# Altium footprint library 7404337_RZ_G2_CD1.PcbLib: 11 footprints
Each footprint in its own frame and in the unit in brackets; x right, y up, seen from the top. Pads: shape width x height; smd on the part's side, far side on the other; paste and mask are expansions set on the pad; w line width, h text height; cw(c..) or ccw(c..) is an arc to the next point about the centre after c.
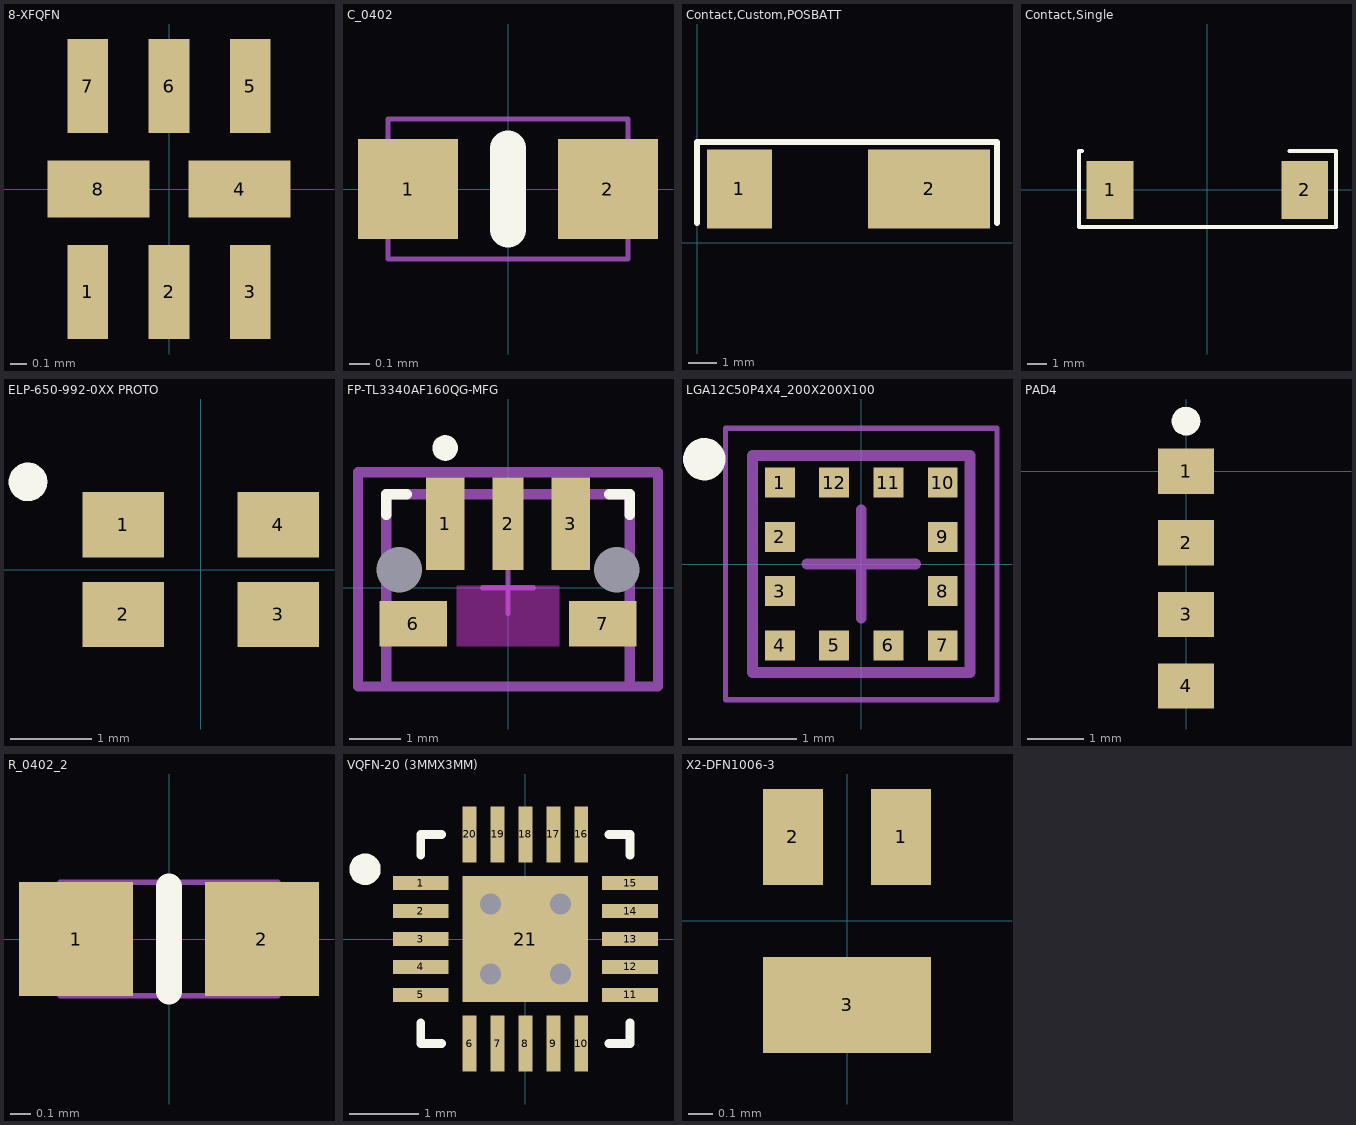
[diagram p0: the footprints below, top view; thin cyan lines are the x and y axes]

## 8-XFQFN [mm] "8-X2QFN (1.5x1.5)"
height 0.4
pads (8):
  rect 0.25x0.58 smd mask+0.127: 1(-0.5,-0.635) 2(0,-0.635) 3(0.5,-0.635) 5(0.5,0.635) 6(0,0.635) 7(-0.5,0.635)
  rect 0.63x0.35 smd mask+0.127: 4(0.435,0) 8(-0.435,0)
3D body "8-XFQFN.stp": height 0.41, standoff 0.01, extent -0.75,-0.75 0.75,0.75

## C_0402 [mm] "Chip capacitor 0402"
height 0.701
pads (2):
  rect 0.5x0.5 smd: 1(-0.5,0) 2(0.5,0)
Top Overlay:
  lines w0.178: 0,-0.203 0,0.203
Mechanical 15:
  lines w0.025: -0.599,-0.351 0.599,-0.351 0.599,0.351 -0.599,0.351 -0.599,-0.351
3D body "CAP_0402.step": height 0.51, standoff 0.01, extent -0.498,-0.249 0.502,0.251

## Contact,Custom,POSBATT [mm]
pads (2):
  rect 2.286x2.794 smd: 1(1.5,1.9)
  rect 4.318x2.794 smd: 2(8.2,1.9)
Top Overlay:
  lines w0.2: 0,0.7 0,3.561 10.6,3.561 10.6,0.7
Mechanical 15:
  text "'.Designator'" at 1.1,2.033 h0.7
3D body "7404338 REV00.STEP": height 2.76, standoff 0.01, extent 0.551,0.403 10.201,3.155

## Contact,Single [mm]
pads (2):
  rect 2.4x3 smd: 1(-5,0) 2(5,0)
Top Overlay:
  lines w0.2: -6.424,2 -6.6,2 ; -3.4,-1.9 6.6,-1.9 ; 6.6,2 6.6,-1.9 ; -6.6,-1.9 6.6,-1.9 ; -6.6,-1.9 -6.6,-0.6 ; -6.6,-1.9 6.6,-1.9 ; -6.6,-1.9 -6.6,-0.6 ; -6.6,-0.6 -6.6,2 ; -6.6,-0.6 -6.6,2
  lines w0.203: 4.2,2 6.6,2
Mechanical 15:
  text "'.Designator'" at -3.865,-0.292 h0.7
3D body "AVX-70-9155-001-615-004.STEP": height 2.51, standoff 0.01, extent -6,-1.35 6,1.35

## ELP-650-992-0XX PROTO [mm] "Jenoptik LED Emitter"
height 1
pads (4):
  rect 1x0.8 smd: 1(-0.95,0.55) 2(-0.95,-0.55) 3(0.95,-0.55) 4(0.95,0.55)
Top Overlay:
  circle w0.254: c-2.122,1.076 r0.11
3D body "rcled.STEP": height 1, standoff 0, extent -1.05,-1.05 1.05,1.05

## FP-TL3340AF160QG-MFG [mil]
height 27.56
pads (7):
  rect 29.5x71 smd paste+0 mask+0: 1(-48.25,49.21) 3(48.25,49.21)
  rect 24x71 smd paste+0 mask+0: 2(0,49.21)
  round 0 hole 35 unplated paste-39370.1 mask+0: 4(-83.5,13.71) 5(83.5,13.71)
  rect 51.5x35 smd paste+0 mask+0: 6(-72.75,-27.79) 7(72.75,-27.79)
Top Overlay:
  circle w9.84: c-48.23,107.28 r4.92
  lines w7.87: -93.5,56.1 -93.5,71.85 -77.76,71.85 ; 77.76,71.85 93.5,71.85 93.5,56.1
Keep-Out Layer:
  rectangle: -39.5,-45.29 39.5,1.71
Mechanical 15:
  lines w3.94: -19.68,0 19.68,0 ; 0,-19.68 0,19.68
  lines w7.87: -93.5,-71.85 -93.5,71.85 93.5,71.85 93.5,-71.85 ; -115.16,-75.79 115.16,-75.79 ; -115.16,-75.79 -115.16,88.58 ; -115.16,-75.79 -115.16,88.58 ; -115.16,-75.79 115.16,-75.79 ; -115.16,88.58 115.16,88.58 ; -115.16,88.58 115.16,88.58 ; 115.16,-75.79 115.16,88.58 ; 115.16,-75.79 115.16,88.58
  text ".Designator" at 0,13.79 h39.37
3D body "Switch_E-Switch_TL3340AF160QG_eec.STEP": height 139.88, standoff -17.72, extent -88.58,-66.93 88.58,76.42

## LGA12C50P4X4_200X200X100 [mm] "LGA, 12-Leads, Body 2.00x2.00mmx1.00mm, Pitch 0.50mm"
height 1
pads (12):
  rect 0.275x0.275 smd mask+0.06: 1(-0.75,0.75) 2(-0.75,0.25) 3(-0.75,-0.25) 4(-0.75,-0.75) 5(-0.25,-0.75) 6(0.25,-0.75) 7(0.75,-0.75) 8(0.75,-0.25) 9(0.75,0.25) 10(0.75,0.75) 11(0.25,0.75) 12(-0.25,0.75)
Top Overlay:
  circle w0.254: c-1.445,0.965 r0.067
Mechanical 13:
  lines w0.1: -1,-1 -1,1 1,1 1,-1 -1,-1
Mechanical 15:
  lines w0.05: -1.25,-1.25 -1.25,1.25 1.25,1.25 1.25,-1.25 -1.25,-1.25
  lines w0.1: -0.5,0 0.5,0 ; 0,-0.5 0,0.5
3D body "LIS2DW12.x_t": height 0.71, standoff 0.01, extent -1,-1 1,1

## PAD4 [mm] "CONN, ROMEO SWIM"
height 1.524
pads (4):
  rect 1x0.8 smd paste-1: 1(0,0) 2(0,-1.27) 3(0,-2.54) 4(0,-3.81)
Top Overlay:
  circle w0.254: c0,0.889 r0.127

## R_0402_2 [mm]
height 1.524
pads (2):
  rect 0.551x0.551 smd: 1(-0.45,0) 2(0.45,0)
Top Overlay:
  lines w0.127: 0,-0.254 0,0.254
Mechanical 15:
  lines w0.025: -0.526,-0.274 -0.526,0.274 0.526,0.274 0.526,-0.274 -0.526,-0.274
3D body "User Library-0402R.STEP": height 0.34, standoff 0, extent -0.52,-0.3 0.52,0.3

## VQFN-20 (3MMX3MM) [mm] "VQFN-20 (3mmx3mm)"
height 1.1
pads (21):
  rect 0.8x0.2 smd mask+0.05: 1(-1.5,0.8) 2(-1.5,0.4) 3(-1.5,0) 4(-1.5,-0.4) 5(-1.5,-0.8) 11(1.5,-0.8) 12(1.5,-0.4) 13(1.5,0) 14(1.5,0.4) 15(1.5,0.8)
  rect 0.2x0.8 smd mask+0.05: 6(-0.8,-1.5) 7(-0.4,-1.5) 8(0,-1.5) 9(0.4,-1.5) 10(0.8,-1.5) 16(0.8,1.5) 17(0.4,1.5) 18(0,1.5) 19(-0.4,1.5) 20(-0.8,1.5)
  rect 1.8x1.8 smd mask+0.05: 21(0,0)
via 0.5,0.5 diameter 0.5 hole 0.3
via -0.5,-0.5 diameter 0.5 hole 0.3
via -0.5,0.5 diameter 0.5 hole 0.3
via 0.5,-0.5 diameter 0.5 hole 0.3
Top Overlay:
  circle w0.25: c-2.3,1 r0.1
  lines w0.127: -1.5,-1.2 -1.5,-1.5 -1.2,-1.5 ; -1.5,1.2 -1.5,1.5 -1.2,1.5 ; 1.2,-1.5 1.5,-1.5 1.5,-1.2 ; 1.2,1.5 1.5,1.5 1.5,1.2
3D body "VQFN20_3X3_MCH.step": height 0.59, standoff 0, extent -1.499,-1.498 1.499,1.5

## X2-DFN1006-3 [mm] "X2-DFN1006-3  Small, 3 pin fet package"
height 0.7
pads (3):
  rect 0.25x0.4 smd mask+0.05: 1(0.225,0.35) 2(-0.225,0.35)
  rect 0.7x0.4 smd mask+0.05: 3(0,-0.35)
3D body "SOT883B.step": height 0.38, standoff 0.01, extent -0.3,-0.525 0.3,0.475